# Altium schematic symbol library C-C2012X5R1C156M125AC.Schlib: 1 symbol
Pins are listed as number, name and electrical type; pins without a type are passive.

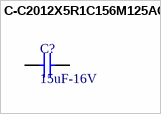
[diagram p0: symbol C-C2012X5R1C156M125AC]

## C-C2012X5R1C156M125AC
designator C?, comment 15uF-16V
CAP CER 10UF 16V 20% X5R 0805
pins: 1, 2